# EAGLE library part AS-ITM-00125 (library tinycircuits)
CONN HEADER 32POS .100 STR TIN
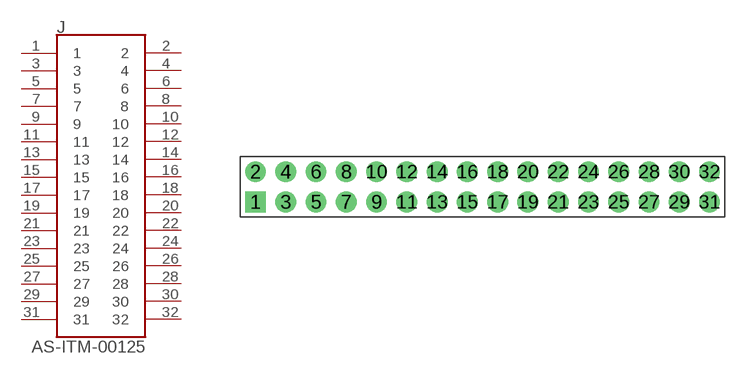
[diagram p52: symbol with the pads of 2X16_.1_TH_HEADER; footprint 2X16_.1_TH_HEADER]

Designator prefix J

## AS-ITM-00125 (PARTNO: AS-ITM-00125; VALUE: 67997-432HLF)  [2X16_.1_TH_HEADER]
1  1
2  2
3  3
4  4
5  5
6  6
7  7
8  8
9  9
10  10
11  11
12  12
13  13
14  14
15  15
16  16
17  17
18  18
19  19
20  20
21  21
22  22
23  23
24  24
25  25
26  26
27  27
28  28
29  29
30  30
31  31
32  32

## Footprint 2X16_.1_TH_HEADER (pad centres in mm)
drill 1 pad 1.75 square: 1 -19.05,-1.27
drill 1 pad 1.75: 2 -19.05,1.27; 3 -16.51,-1.27; 4 -16.51,1.27; 5 -13.97,-1.27; 6 -13.97,1.27; 7 -11.43,-1.27; 8 -11.43,1.27; 9 -8.89,-1.27; 10 -8.89,1.27; 11 -6.35,-1.27; 12 -6.35,1.27; 13 -3.81,-1.27; 14 -3.81,1.27; 15 -1.27,-1.27; 16 -1.27,1.27; 17 1.27,-1.27; 18 1.27,1.27; 19 3.81,-1.27; 20 3.81,1.27; 21 6.35,-1.27; 22 6.35,1.27; 23 8.89,-1.27; 24 8.89,1.27; 25 11.43,-1.27; 26 11.43,1.27; 27 13.97,-1.27; 28 13.97,1.27; 29 16.51,-1.27; 30 16.51,1.27; 31 19.05,-1.27; 32 19.05,1.27